# Altium integrated library HTSW-104-08-S-S.IntLib: 1 symbol
Pins are listed as number, name and electrical type; pins without a type are passive.

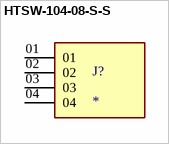
[diagram p0: symbol HTSW-104-08-S-S]

## HTSW-104-08-S-S
designator J?
MP: HTSW-104-08-S-S; Price: None; Package: None; Value: *; Availability: Unavailable
footprint SAMTEC_HTSW-104-08-S-S
pins: 01, 02, 03, 04